# EAGLE library part MAX20029ATIA/V+ (library My_Library)
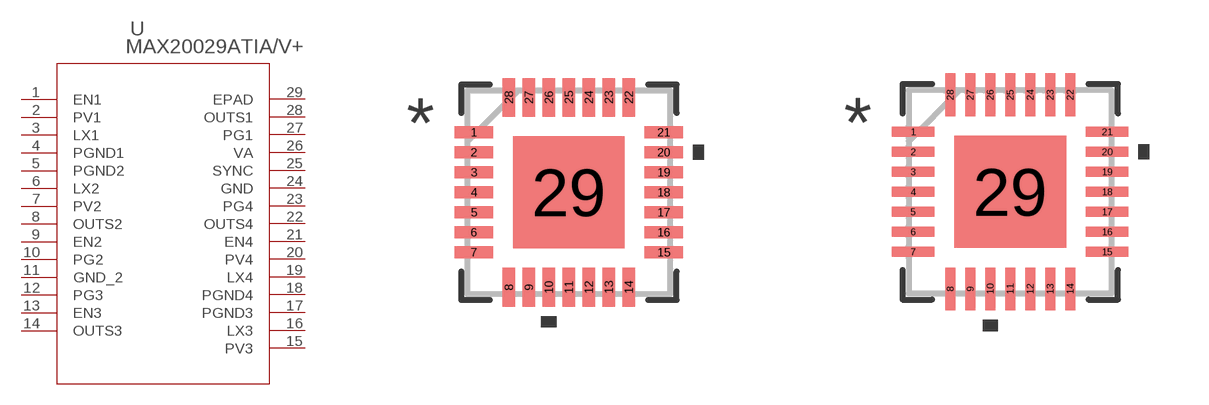
[diagram p12: symbol with the pads of 21-0140L_T2855-5_MXM; footprints 21-0140L_T2855-5_MXM, 21-0140L_T2855-5_MXM-M]

Designator prefix U

## MAX20029ATIA/V+ (COPYRIGHT: Copyright (C) 2024 Ultra Librarian. All rights reserved.; MANUFACTURER_PART_NUMBER: MAX20029ATIA/V+; MFR_NAME: Analog Devices Inc)  [21-0140L_T2855-5_MXM]
1  EN1  in
2  PV1  in
3  LX1  pas
4  PGND1  pwr
5  PGND2  pwr
6  LX2  pas
7  PV2  in
8  OUTS2  in
9  EN2  in
10  PG2  out
11  GND_2  pwr
12  PG3  out
13  EN3  in
14  OUTS3  in
15  PV3  in
16  LX3  pas
17  PGND3  pwr
18  PGND4  pwr
19  LX4  pas
20  PV4  in
21  EN4  in
22  OUTS4  in
23  PG4  out
24  GND  pwr
25  SYNC  in
26  VA  pas
27  PG1  out
28  OUTS1  in
29  EPAD  in

## MAX20029ATIA/V+21-0140L_T2855-5_MXM-M (COPYRIGHT: Copyright (C) 2024 Ultra Librarian. All rights reserved.; MANUFACTURER_PART_NUMBER: MAX20029ATIA/V+; MFR_NAME: Analog Devices Inc)  [21-0140L_T2855-5_MXM-M]
Pads as for 21-0140L_T2855-5_MXM

## MAX20029ATIA/V+21-0140L_T2855-5_MXM-L (COPYRIGHT: Copyright (C) 2024 Ultra Librarian. All rights reserved.; MANUFACTURER_PART_NUMBER: MAX20029ATIA/V+; MFR_NAME: Analog Devices Inc)  [21-0140L_T2855-5_MXM-L]
Pads as for 21-0140L_T2855-5_MXM

## Footprint 21-0140L_T2855-5_MXM (pad centres in mm)
smd 0.965 x 0.305: 1 -2.375,1.5; 2 -2.375,1; 3 -2.375,0.5; 4 -2.375,0; 5 -2.375,-0.5; 6 -2.375,-1; 7 -2.375,-1.5; 15 2.375,-1.5; 16 2.375,-1; 17 2.375,-0.5; 18 2.375,0; 19 2.375,0.5; 20 2.375,1; 21 2.375,1.5
smd 0.305 x 0.965: 8 -1.5,-2.375; 9 -1,-2.375; 10 -0.5,-2.375; 11 0,-2.375; 12 0.5,-2.375; 13 1,-2.375; 14 1.5,-2.375; 22 1.5,2.375; 23 1,2.375; 24 0.5,2.375; 25 0,2.375; 26 -0.5,2.375; 27 -1,2.375; 28 -1.5,2.375
smd 2.794 x 2.794: 29 0,0

## Footprint 21-0140L_T2855-5_MXM-M (pad centres in mm)
smd 1.067 x 0.254: 1 -2.426,1.5; 2 -2.426,1; 3 -2.426,0.5; 4 -2.426,0; 5 -2.426,-0.5; 6 -2.426,-1; 7 -2.426,-1.5; 15 2.426,-1.5; 16 2.426,-1; 17 2.426,-0.5; 18 2.426,0; 19 2.426,0.5; 20 2.426,1; 21 2.426,1.5
smd 0.254 x 1.067: 8 -1.5,-2.426; 9 -1,-2.426; 10 -0.5,-2.426; 11 0,-2.426; 12 0.5,-2.426; 13 1,-2.426; 14 1.5,-2.426; 22 1.5,2.426; 23 1,2.426; 24 0.5,2.426; 25 0,2.426; 26 -0.5,2.426; 27 -1,2.426; 28 -1.5,2.426
smd 2.794 x 2.794: 29 0,0

## Footprint 21-0140L_T2855-5_MXM-L (pad centres in mm)
smd 0.864 x 0.254: 1 -2.324,1.5; 2 -2.324,1; 3 -2.324,0.5; 4 -2.324,0; 5 -2.324,-0.5; 6 -2.324,-1; 7 -2.324,-1.5; 15 2.324,-1.5; 16 2.324,-1; 17 2.324,-0.5; 18 2.324,0; 19 2.324,0.5; 20 2.324,1; 21 2.324,1.5
smd 0.254 x 0.864: 8 -1.5,-2.324; 9 -1,-2.324; 10 -0.5,-2.324; 11 0,-2.324; 12 0.5,-2.324; 13 1,-2.324; 14 1.5,-2.324; 22 1.5,2.324; 23 1,2.324; 24 0.5,2.324; 25 0,2.324; 26 -0.5,2.324; 27 -1,2.324; 28 -1.5,2.324
smd 2.794 x 2.794: 29 0,0